# Altium footprint library 新塘10W双线圈苹果8快速无线充电.PcbLib: 21 footprints (part 1 of 2)
Each footprint in its own frame and in the unit in brackets; x right, y up, seen from the top. Pads: shape width x height; smd on the part's side, far side on the other; paste and mask are expansions set on the pad; w line width, h text height; cw(c..) or ccw(c..) is an arc to the next point about the centre after c.
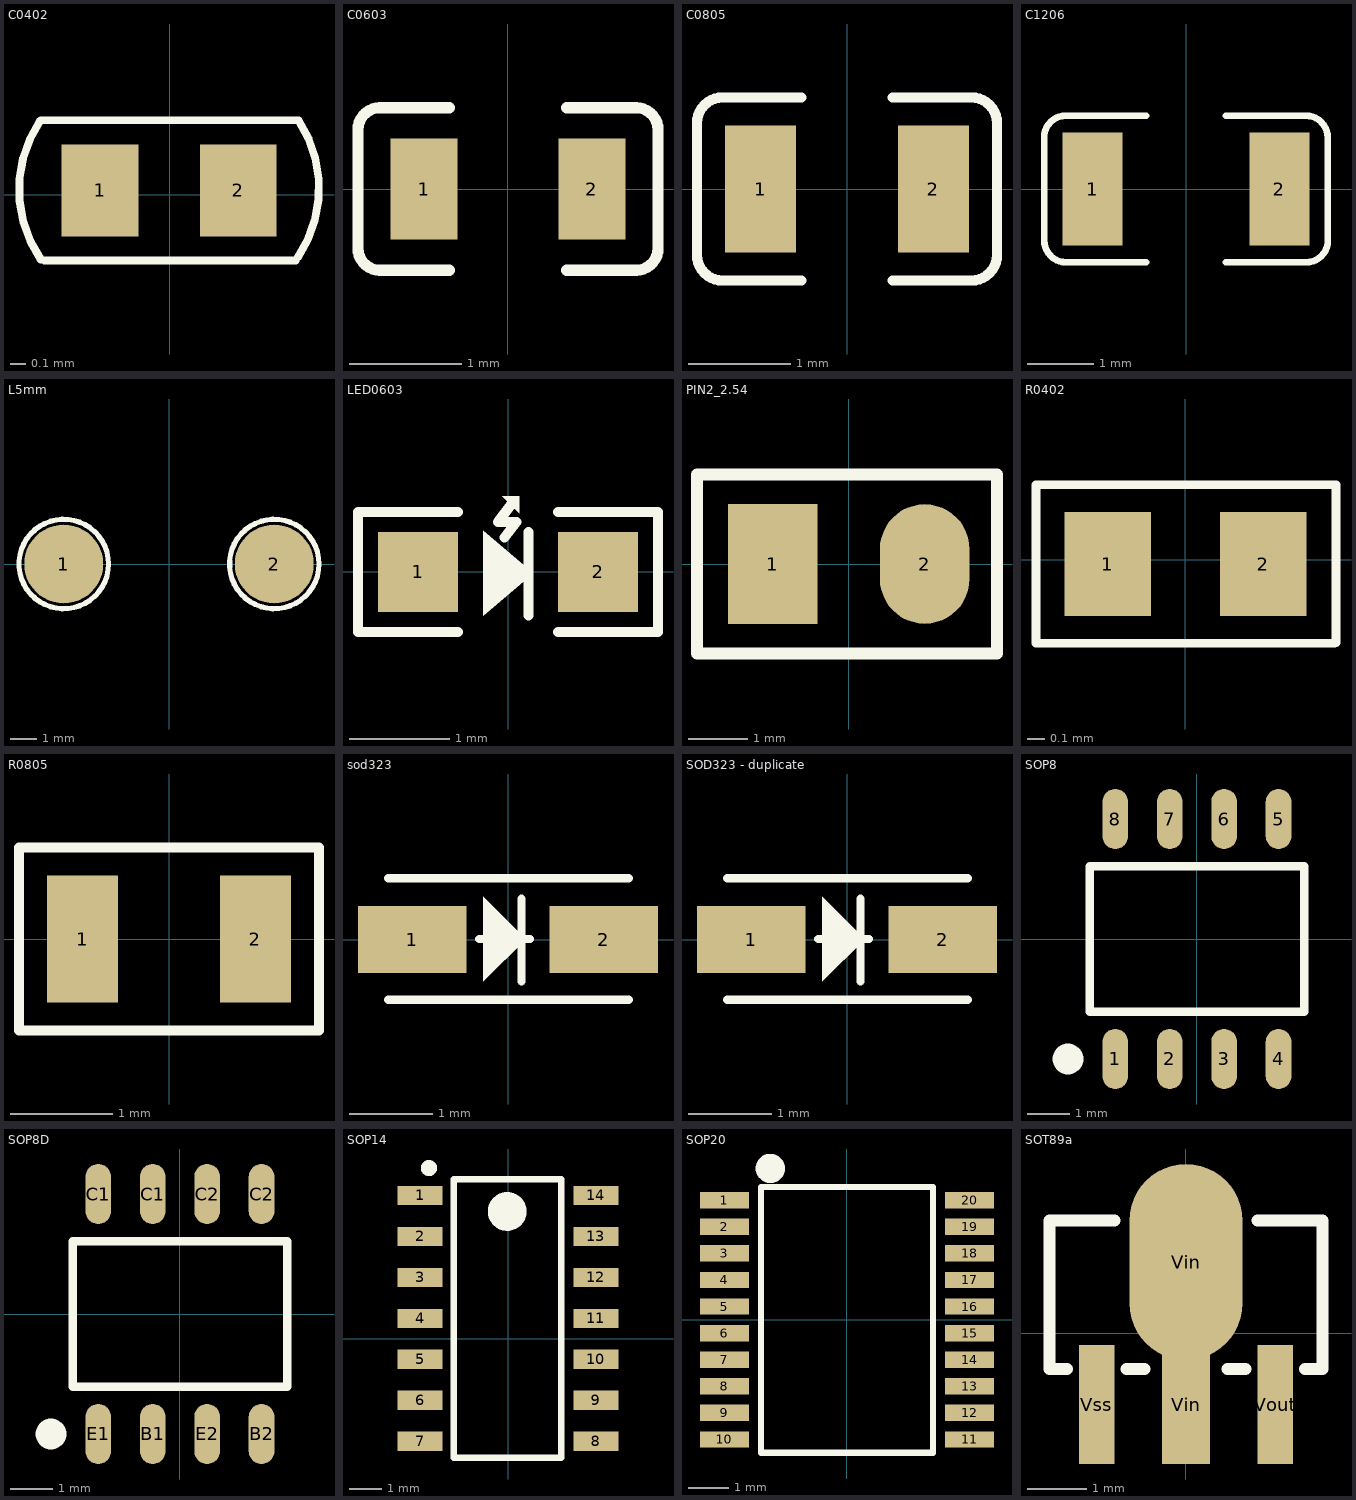
[diagram p0: the footprints below, top view; thin cyan lines are the x and y axes]

## C0402 [mm] "1.0x0.5mm"
height 0.6
pads (2):
  rect 0.5x0.6 smd: 1(-0.454,0.029) 2(0.446,0.029)
Top Overlay:
  lines w0.05: -0.842,0.486 ccw(c-0.182,0.033) -0.839,-0.424 ; -0.837,0.486 0.839,0.486 ; -0.817,-0.428 0.82,-0.428 ; 0.832,-0.411 ccw(c0.172,0.042) 0.838,0.485
3D body: height 0.22, standoff 0.02, extent -0.5,-0.272 0.5,0.328

## C0603 [mm]
height 2.2
pads (2):
  rect 0.6x0.9 smd: 1(-0.75,0) 2(0.75,0)
Top Overlay:
  lines w0.1: -1.34,0.525 -1.34,-0.53 ccw(c-1.145,-0.53) -1.145,-0.725 -0.525,-0.725 ; -1.34,0.53 cw(c-1.145,0.53) -1.145,0.725 -0.525,0.725 ; 0.525,-0.725 1.145,-0.725 ccw(c1.145,-0.53) 1.34,-0.53 ; 0.525,0.725 1.145,0.725 cw(c1.145,0.53) 1.34,0.53 1.34,-0.525
3D body: height 0.32, standoff 0.02, extent -0.798,-0.4 0.802,0.4

## C0805 [mm]
height 5
pads (2):
  rect 0.7x1.25 smd: 1(-0.85,0) 2(0.85,0)
Top Overlay:
  lines w0.1: -1.475,-0.675 -1.475,0.65 cw(c-1.225,0.65) -1.225,0.9 -0.45,0.9 ; -1.475,-0.65 ccw(c-1.225,-0.65) -1.225,-0.9 -0.45,-0.9 ; 0.45,-0.9 1.225,-0.9 ccw(c1.225,-0.65) 1.475,-0.65 1.475,0.675 ; 0.45,0.9 1.225,0.9 cw(c1.225,0.65) 1.475,0.65
3D body: height 0.8, standoff 0.02, extent -1,-0.625 1,0.625

## C1206 [mm]
height 1.77
pads (2):
  rect 0.9x1.7 smd: 1(-1.4,0) 2(1.4,0)
Top Overlay:
  lines w0.1: -2.128,0.775 cw(c-1.802,0.775) -1.802,1.1 -0.6,1.1 ; -2.125,0.8 -2.125,-0.775 ccw(c-1.8,-0.775) -1.8,-1.1 -0.6,-1.1 ; 0.6,-1.1 1.802,-1.1 ccw(c1.802,-0.775) 2.128,-0.775 ; 0.6,1.1 1.8,1.1 cw(c1.8,0.775) 2.125,0.775 2.125,-0.8
3D body: height 1.02, standoff 0.02, extent -1.6,-0.799 1.6,0.801

## L5mm [mm]
height 5
pads (2):
  round 3 smd: 1(-4,0) 2(4,0)
Top Overlay:
  circle w0.2: c4,0 r1.7
  circle w0.2: c-4,0 r1.7

## LED0603 [mm]
height 1
pads (2):
  rect 0.8x0.8 smd mask+0.05: 1(-0.9,0) 2(0.9,0)
Top Overlay:
  region: 0.115,0.585 0.115,0.755 -0.055,0.755
  region: 0.25,-0.017 -0.25,-0.442 -0.25,0.408
  lines w0.1: -0.5,-0.6 -1.5,-0.6 -1.5,0.6 -0.5,0.6 ; -0.034,0.343 0.083,0.5 -0.098,0.5 0.03,0.67 ; 0.206,-0.437 0.206,0.397 ; 0.5,-0.6 1.5,-0.6 1.5,0.6 0.5,0.6

## PIN2_2.54 [mm]
height 5
pads (2):
  rect 1.5x2 smd: 1(-1.27,0)
  oval 1.5x2 smd: 2(1.27,0)
Top Overlay:
  lines w0.2: -2.54,-1.5 2.48,-1.5 2.48,1.5 -2.54,1.5 -2.54,-1.5

## R0402 [mm] "1.0x0.5mm"
height 0.6
pads (2):
  rect 0.5x0.6 smd: 1(-0.45,-0.025) 2(0.45,-0.025)
Top Overlay:
  lines w0.05: 0.864,-0.482 -0.864,-0.482 -0.864,0.432 0.87,0.432 0.87,-0.48
3D body: height 0.3, standoff 0, extent -0.498,-0.276 0.502,0.224

## R0805 [mm]
height 5
pads (2):
  rect 0.7x1.25 smd: 1(-0.85,0) 2(0.85,0)
Top Overlay:
  lines w0.1: -1.475,-0.9 -1.475,0.9 1.475,0.9 1.475,-0.9 -1.475,-0.9
3D body: height 0.55, standoff 0, extent -0.999,-0.628 1.001,0.632

## sod323 [mm] "0805"
height 2
pads (2):
  rect 1.3x0.8 smd: 1(-1.15,0) 2(1.14,0)
Top Overlay:
  region: 0.208,0.008 -0.3,-0.5 -0.3,0.516
  lines w0.1: -1.44,-0.717 1.44,-0.717 ; -1.44,0.733 1.44,0.733 ; -1.245,-0.717 -0.35,-0.717 ; -1.245,0.733 -0.35,0.733 ; -0.351,0.008 0.259,0.008 ; 0.157,-0.5 0.157,0.491 ; 0.35,-0.717 1.245,-0.717 ; 0.35,0.733 1.245,0.733
3D body: height 1, standoff 0, extent -1.299,-0.65 1.301,0.65

## SOD323 - duplicate [mm]
pads (2):
  rect 1.3x0.8 smd: 1(-1.15,0) 2(1.14,0)
Top Overlay:
  region: 0.208,0.008 -0.3,-0.5 -0.3,0.516
  lines w0.1: -1.44,-0.717 1.44,-0.717 ; -1.44,0.733 1.44,0.733 ; -1.245,-0.717 -0.35,-0.717 ; -1.245,0.733 -0.35,0.733 ; -0.351,0.008 0.259,0.008 ; 0.157,-0.5 0.157,0.491 ; 0.35,-0.717 1.245,-0.717 ; 0.35,0.733 1.245,0.733
3D body: height 1, standoff 0, extent -1.299,-0.65 1.301,0.65

## SOP8 [mm]
height 2
pads (8):
  oval 0.6x1.4 smd: 1(-1.905,-2.8) 2(-0.635,-2.8) 3(0.635,-2.8) 4(1.905,-2.8) 5(1.905,2.8) 6(0.635,2.8) 7(-0.635,2.8) 8(-1.905,2.8)
Top Overlay:
  circle w0.5: c-3.007,-2.8 r0.107
  lines w0.2: -2.5,-1.7 2.5,-1.7 2.5,1.7 -2.5,1.7 -2.5,-1.7
3D body: height 1.6, standoff 0, extent -2.505,-3.027 2.515,3.015

## SOP8D [mm]
height 2
pads (8):
  oval 0.6x1.4 smd: B1(-0.635,-2.8) B2(1.905,-2.8) C1(-1.905,2.8) C1(-0.635,2.8) C2(0.635,2.8) C2(1.905,2.8) E1(-1.905,-2.8) E2(0.635,-2.8)
Top Overlay:
  circle w0.5: c-3.007,-2.8 r0.107
  lines w0.2: -2.5,-1.7 2.5,-1.7 2.5,1.7 -2.5,1.7 -2.5,-1.7
3D body: height 1.6, standoff 0, extent -2.5,-3.025 2.52,3.017

## SOP14 [mm]
height 1.77
pads (14):
  rect 1.4x0.6 smd: 1(-2.725,4.445) 2(-2.725,3.175) 3(-2.725,1.905) 4(-2.725,0.635) 5(-2.725,-0.635) 6(-2.725,-1.905) 7(-2.725,-3.175) 8(2.725,-3.175) 9(2.725,-1.905) 10(2.725,-0.635) 11(2.725,0.635) 12(2.725,1.905) 13(2.725,3.175) 14(2.725,4.445)
Top Overlay:
  circle w0.6: c-0.025,3.95 r0.3
  circle w0.25: c-2.45,5.295 r0.125
  lines w0.2: -1.675,-3.68 1.65,-3.68 ; -1.675,-3.675 -1.675,4.95 1.65,4.95 1.65,-3.675
3D body: height 1.61, standoff 0, extent -3.062,-3.704 3.138,4.996

## SOP20 [mm]
height 1
pads (20):
  rect 1.2x0.4 smd: 1(-3,2.925) 2(-3,2.275) 3(-3,1.625) 4(-3,0.975) 5(-3,0.325) 6(-3,-0.325) 7(-3,-0.975) 8(-3,-1.625) 9(-3,-2.275) 10(-3,-2.925) 11(3,-2.925) 12(3,-2.275) 13(3,-1.625) 14(3,-0.975) 15(3,-0.325) 16(3,0.325) 17(3,0.975) 18(3,1.625) 19(3,2.275) 20(3,2.925)
Top Overlay:
  circle w0.5: c-1.875,3.702 r0.107
  lines w0.15: -2.1,-3.25 2.1,-3.25 2.1,3.25 -2.1,3.25 -2.1,-3.25
3D body: height 1.2, standoff 0, extent -3.279,-3.301 3.271,3.299

## SOT89a [mm] "7133"
height 5
pads (4):
  rect 0.8x2 smd: Vin(0,-1.2)
  oval 1.9x3.3 smd: Vin(0,1.2)
  rect 0.6x2 smd: Vout(1.5,-1.2) Vss(-1.5,-1.2)
Top Overlay:
  lines w0.203: -2,-0.6 -2.3,-0.6 -2.3,1.9 -1.2,1.9 ; -1,-0.6 -0.7,-0.6 ; 0.7,-0.6 1,-0.6 ; 1.2,1.9 2.3,1.9 2.3,-0.6 2,-0.6
3D body: height 1.51, standoff 0, extent -2.251,-1.757 2.249,2.543